# EAGLE library part PIN7 (library 0_HTL_uC-MEGACARD)
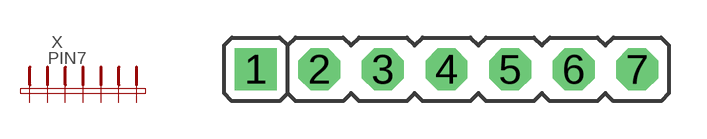
[diagram p13: symbol with the pads of PIN7; footprint PIN7]

Designator prefix X

## PIN7  [PIN7]
1  1  pas
2  2  pas
3  3  pas
4  4  pas
5  5  pas
6  6  pas
7  7  pas

## Footprint PIN7 (pad centres in mm)
drill 1 pad 1.676 square: 1 -7.62,0
drill 1 pad 1.676 octagon: 2 -5.08,0; 3 -2.54,0; 4 0,0; 5 2.54,0; 6 5.08,0; 7 7.62,0